# EAGLE library part MOLEX_6P (library Amplifier_Parts)
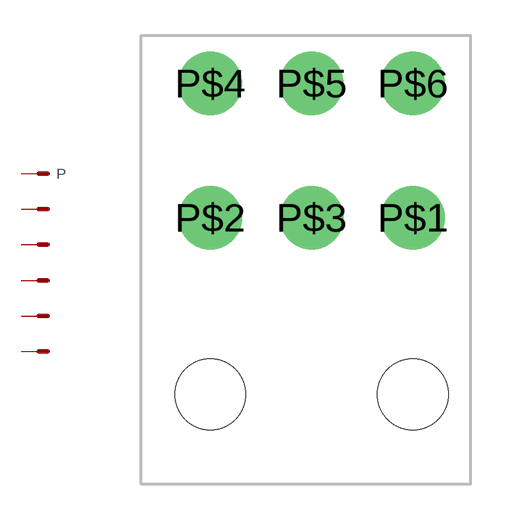
[diagram p2: symbol with the pads of MOLEX_6P; footprint MOLEX_6P]

Designator prefix P

## MOLEX_6P  [MOLEX_6P]
P$1  S  pas
P$2  S1  pas
P$3  S2  pas
P$4  S3  pas
P$5  S4  pas
P$6  S5  pas

## Footprint MOLEX_6P (pad centres in mm)
drill 1.8: P$1 6.45,2.42; P$2 -2.15,2.42; P$3 2.15,2.42; P$4 -2.15,8.12; P$5 2.15,8.12; P$6 6.45,8.12
hole 3 at -2.15,-5.08
hole 3 at 6.45,-5.08